# Altium footprint library CHIP_IND.PcbLib: 1 footprints
Each footprint in its own frame and in the unit in brackets; x right, y up, seen from the top. Pads: shape width x height; smd on the part's side, far side on the other; paste and mask are expansions set on the pad; w line width, h text height; cw(c..) or ccw(c..) is an arc to the next point about the centre after c.
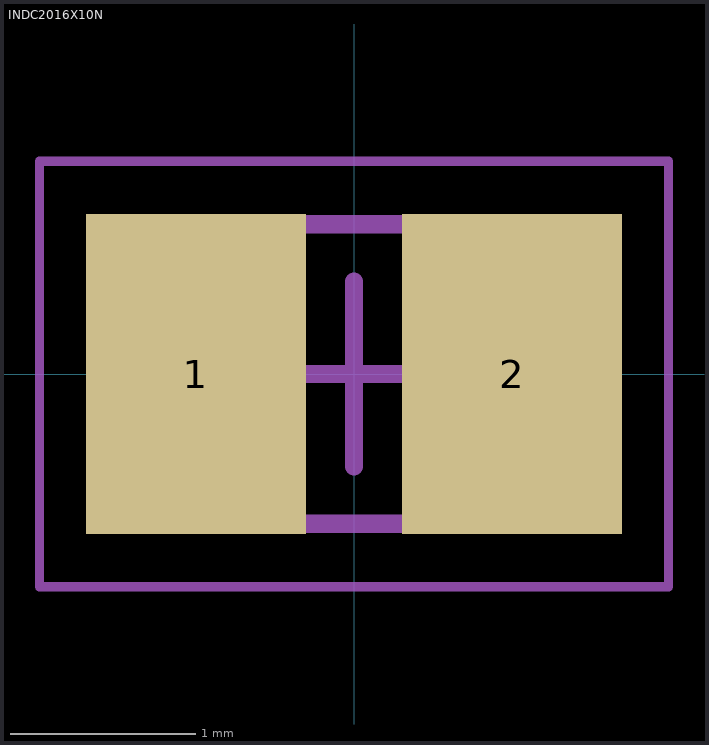
[diagram p0: the footprint, top view; thin cyan lines are the x and y axes]

## INDC2016X10N [mm] "Chip Inductor, 2-Leads, Body 2,00x1,60mm, IPC Medium Density"
height 1
pads (2):
  rect 1.19x1.73 smd: 1(-0.855,0) 2(0.855,0)
Mechanical 13:
  lines w0.1: -1.1,-0.81 1.1,-0.81 1.1,0.81 -1.1,0.81 -1.1,-0.81
Mechanical 15:
  lines w0.05: -1.7,-1.15 1.7,-1.15 1.7,1.15 -1.7,1.15 -1.7,-1.15
  lines w0.1: -0.5,0 0.5,0 ; 0,-0.5 0,0.5
3D body "INDC2016X10N.step": height 1, standoff 0, extent -1.1,-0.81 1.1,0.81